# Altium schematic symbol library LogicShifter.SchLib: 5 symbols
Pins are listed as number, name and electrical type; pins without a type are passive.

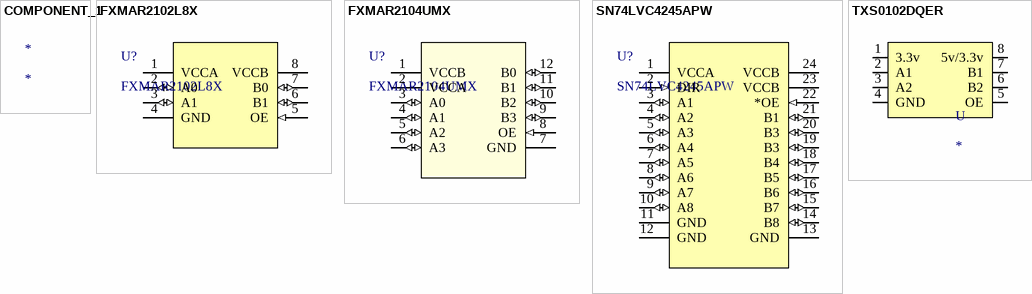
[diagram p0: symbols COMPONENT_1 to TXS0102DQER]

## COMPONENT_1
designator *

## FXMAR2102L8X
designator U?
No Description Available; Mfr_Name: onsemi; Copyright: Copyright (C) 2024 Ultra Librarian. All rights reserved.; Manufacturer_Part_Number: FXMAR2102L8X; RefDes: RefDes; Type: DEV
footprint FXMAR2102L8X_ONS
pins: 1 VCCA (power), 2 A0 (io), 3 A1 (io), 4 GND (power), 5 OE (in), 6 B1 (io), 7 B0 (io), 8 VCCB (power)

## FXMAR2104UMX
designator U?
Voltage Level Translator Bidirectional 1 Circuit 4 Channel 26MHz 12-UMLP (1.8x1.8); Mfr_Name: onsemi; Copyright: Copyright (C) 2024 Ultra Librarian. All rights reserved.; Manufacturer_Part_Number: FXMAR2104UMX; RefDes: RefDes; Type: DEV
footprint ULTRATHIN_MLP_12L_ONS
pins: 1 VCCB (power), 2 VCCA (power), 3 A0 (io), 4 A1 (io), 5 A2 (io), 6 A3 (io), 7 GND (power), 8 OE (in), 9 B3 (io), 10 B2 (io), 11 B1 (io), 12 B0 (io)

## SN74LVC4245APW
designator U?
Voltage Level Translator Bidirectional 1 Circuit 8 Channel 24-TSSOP; Mfr_Name: Texas Instruments; Copyright: Copyright (C) 2024 Ultra Librarian. All rights reserved.; Manufacturer_Part_Number: SN74LVC4245APW; RefDes: RefDes; Type: DEV
footprint PW24
pins: 1 VCCA (power), 2 DIR (in), 3 A1 (io), 4 A2 (io), 5 A3 (io), 6 A4 (io), 7 A5 (io), 8 A6 (io), 9 A7 (io), 10 A8 (io), 11 GND (power), 12 GND (power), 13 GND (power), 14 B8 (io), 15 B7 (io), 16 B6 (io), 17 B5 (io), 18 B4 (io), 19 B3 (io), 20 B3 (io), 21 B1 (io), 22 *OE (in), 23 VCCB (power), 24 VCCB (power)

## TXS0102DQER
designator U
2-Bit Bidirectional Voltage-Level Shifter for Open-Drain and Push-Pull Application / 3.3v on A / 5v on B; MF: Texas Instruments; MP: TXS0102DQER; Digi-Key_Part_Number: 296-28368-1-ND; Texas_Instruments-Purchase-URL: https://snapeda.com/shop?store=Texas+Instruments&id=449188; SnapEDA_Link: https://www.snapeda.com/parts/TXS0102DQER/Texas%20Instruments/view-part/449188/?ref=snap; Mouser-Purchase-URL: https://snapeda.com/shop?store=Mouser&id=449188; Package: X2SON-8 Texas Instruments; DigiKey-Purchase-URL: https://snapeda.com/shop?store=DigiKey&id=449188; Arrow_Electronics-Purchase-URL: https://snapeda.com/shop?store=Arrow+Electronics&id=449188; Value: *; Supplier Part Number 1: 296-28368-1-ND
footprint SON35P140X100X40-8N
pins: 1 3.3v, 2 A1, 3 A2, 4 GND, 5 OE, 6 B2, 7 B1, 8 5v/3.3v